# Altium footprint library TE_7-534998-0.PcbLib: 1 footprints
Each footprint in its own frame and in the unit in brackets; x right, y up, seen from the top. Pads: shape width x height; smd on the part's side, far side on the other; paste and mask are expansions set on the pad; w line width, h text height; cw(c..) or ccw(c..) is an arc to the next point about the centre after c.
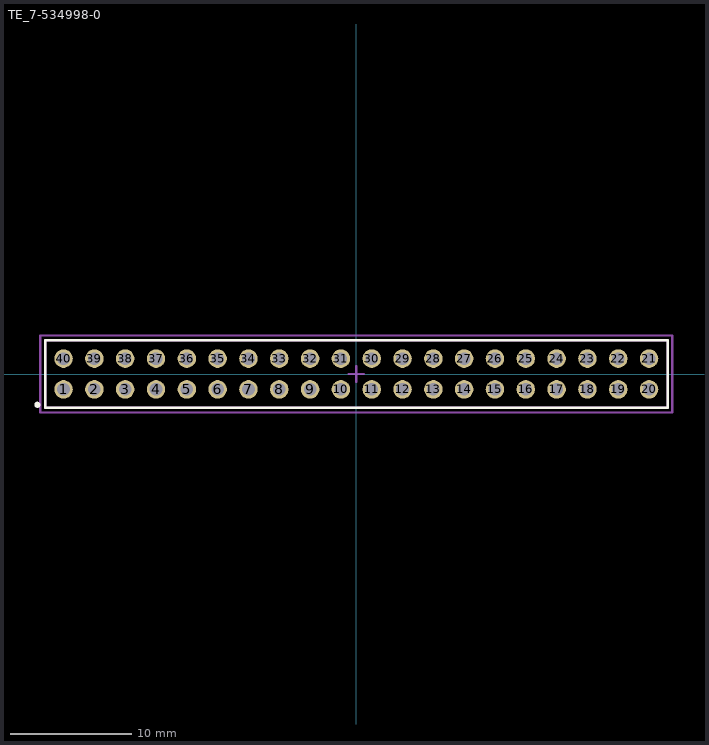
[diagram p0: the footprint, top view; thin cyan lines are the x and y axes]

## TE_7-534998-0 [mil]
pads (40):
  round 60 hole 41: 1(-950,-50) 2(-850,-50) 3(-750,-50) 4(-650,-50) 5(-550,-50) 6(-450,-50) 7(-350,-50) 8(-250,-50) 9(-150,-50) 10(-50,-50) 11(50,-50) 12(150,-50) 13(250,-50) 14(350,-50) 15(450,-50) 16(550,-50) 17(650,-50) 18(750,-50) 19(850,-50) 20(950,-50) 21(950,50) 22(850,50) 23(750,50) 24(650,50) 25(550,50) 26(450,50) 27(350,50) 28(250,50) 29(150,50) 30(50,50) 31(-50,50) 32(-150,50) 33(-250,50) 34(-350,50) 35(-450,50) 36(-550,50) 37(-650,50) 38(-750,50) 39(-850,50) 40(-950,50)
Top Overlay:
  circle w10: c-1035,-100 r5
  lines w7.87: -1010,-110 1010,-110 1010,110 -1010,110 -1010,-110
Mechanical 15:
  lines w7.87: -25,0 25,0 ; 0,-25 0,25 ; -1025,-125 -1025,125 1025,125 1025,-125 -1025,-125
Mechanical 17:
  lines w7.87: -1010,-110 -1010,110 1010,110 1010,-110 -1010,-110
  text ".Designator" at -965,-70 h60
Mechanical 19:
  lines w7.87: -1010,-110 -1010,110 1010,110 1010,-110 -1010,-110
  text ".Comment" at -970,-80 h60
3D body: height 265, standoff -125, extent -1000,-98.99 1000,99